# Altium footprint library airu-board.PCBLIB: 118 footprints (part 5 of 8)
Each footprint in its own frame and in the unit in brackets; x right, y up, seen from the top. Pads: shape width x height; smd on the part's side, far side on the other; paste and mask are expansions set on the pad; w line width, h text height; cw(c..) or ccw(c..) is an arc to the next point about the centre after c.
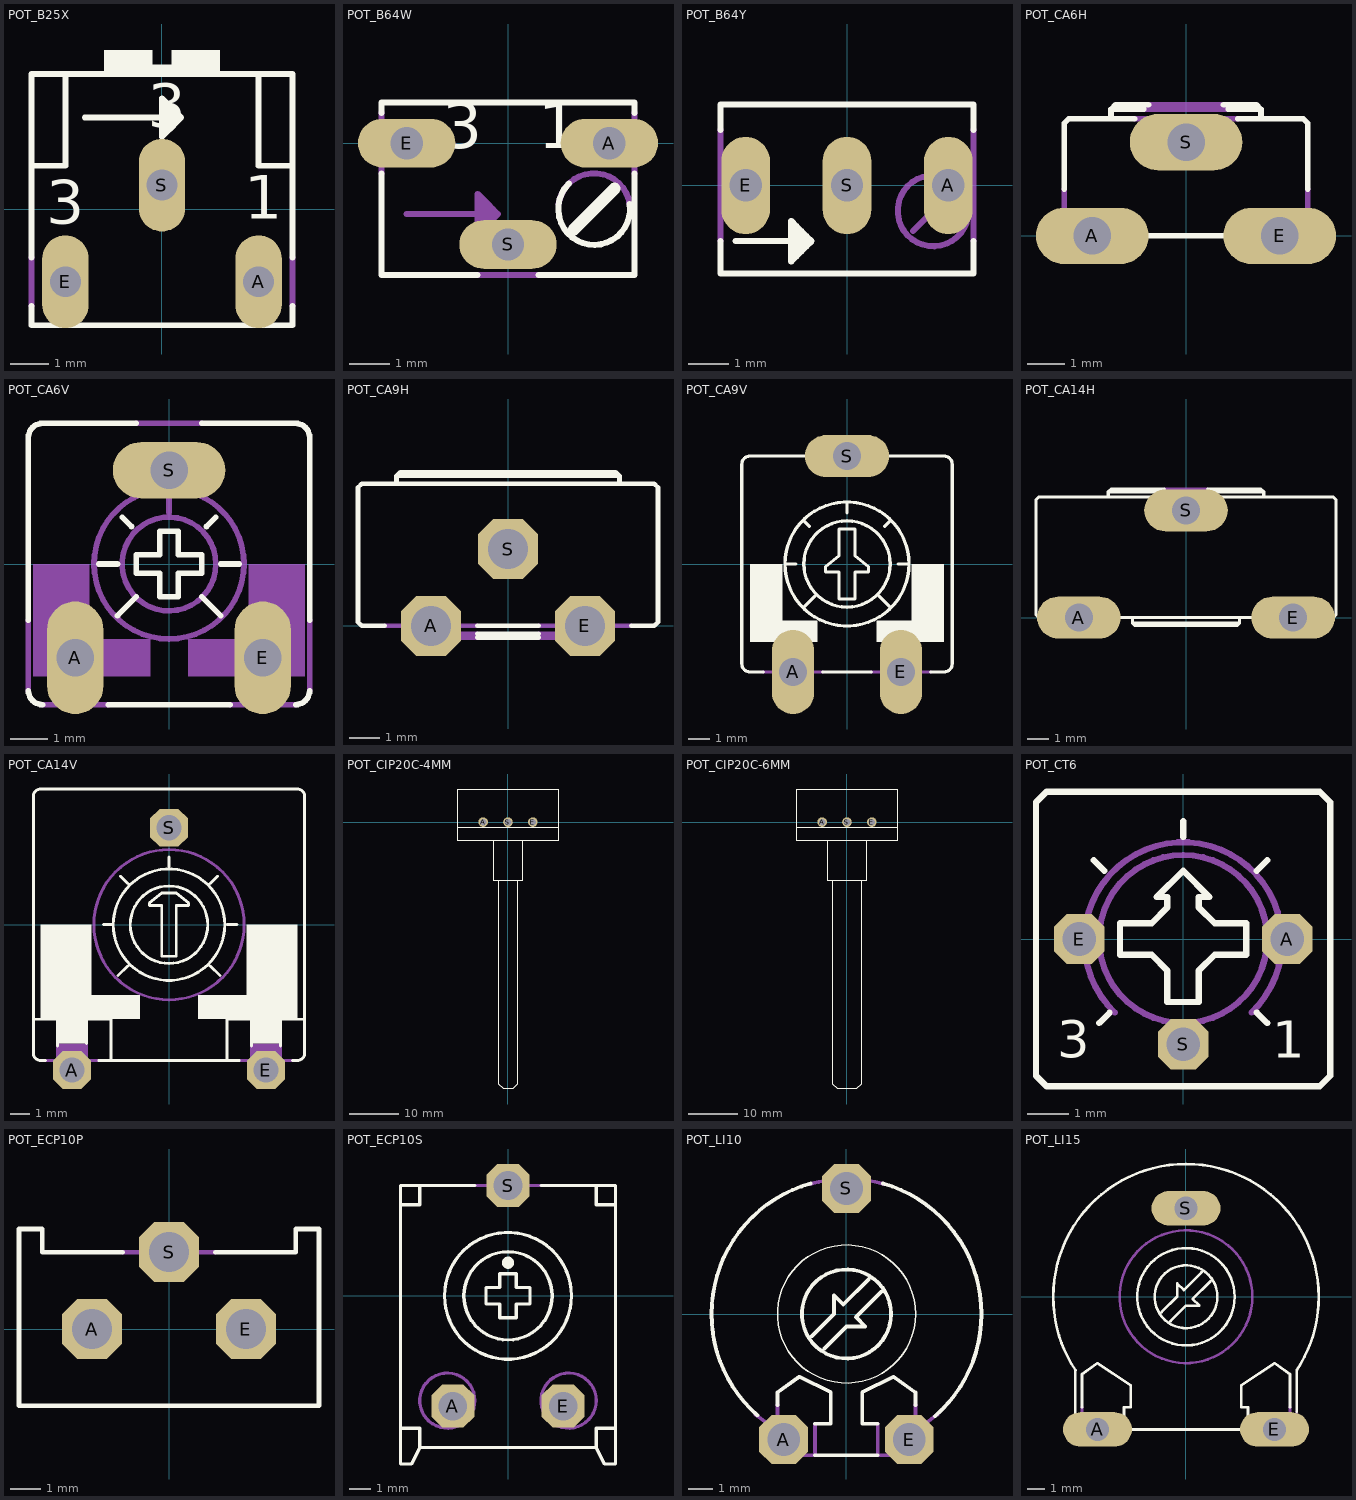
[diagram p4: the footprints below, top view; thin cyan lines are the x and y axes]

## POT_B25X [mil]
pads (3):
  oval 48x96 hole 32: A(100,-75) E(-100,-75) S(0,25)
Top Overlay:
  rectangle: -60,140 -10,165
  rectangle: 10,140 60,165
  rectangle: -10,140 10,150
  lines w6: -135,-100 -135,-120 135,-120 135,-100 ; -135,-50 -135,45 ; -80,95 5,95 ; 135,-50 135,45 ; -135,45 -100,45 -100,140 ; -135,45 -135,140 -100,140 ; -100,140 100,140 ; 5,80 10,85 ; 5,80 5,95 ; 5,80 0,75 0,115 5,110 ; 5,95 20,95 ; 5,95 5,110 ; 5,110 10,105 ; 10,85 10,105 ; 10,85 15,90 ; 10,105 15,100 ; 15,90 20,95 ; 15,90 15,100 ; 15,100 20,95 ; 100,140 135,140 135,45 ; 100,140 100,45 135,45
  text "3" at -120,-30 h77.5
  text "1" at 85,-25 h77.5
  text "3" at -15,70 h77.5
Mechanical 16:
  lines w6: -135,-100 -135,-50 ; 135,-100 135,-50

## POT_B64W [mil]
pads (3):
  oval 96x48 hole 32: A(100,0) E(-100,0) S(0,-100)
Top Overlay:
  lines w6: -125,-30 -125,-130 -30,-130 ; -125,30 -125,40 125,40 125,30 ; 30,-130 125,-130 125,-30 ; 60,-40 ccw(c85,-65) 120,-60
  lines w12: 65,-85 105,-45
  text "3" at -65,-20 h77.5
  text "1" at 30,-20 h77.5
Mechanical 16:
  lines w6: -125,-30 -125,30 ; -100,-70 -25,-70 ; -30,-130 30,-130 ; 50,-60 cw(c85,-65) 120,-60 ; 125,-30 125,30 ; -25,-85 -20,-80 ; -25,-85 -25,-70 ; -25,-85 -30,-90 -30,-50 -25,-55 ; -25,-70 -10,-70 ; -25,-70 -25,-55 ; -25,-55 -20,-60 ; -20,-80 -20,-60 ; -20,-80 -15,-75 ; -20,-60 -15,-65 ; -15,-75 -10,-70 ; -15,-75 -15,-65 ; -15,-65 -10,-70
  text "3" at -5,-95 h77.5

## POT_B64Y [mil]
pads (3):
  oval 48x96 hole 32: A(100,0) E(-100,0) S(0,0)
Top Overlay:
  lines w6: -125,-55 -125,-87 125,-87 125,-55 ; -125,55 -125,80 125,80 125,55 ; -110,-55 -50,-55 ; -50,-70 -45,-65 ; -50,-70 -50,-55 ; -50,-70 -55,-75 -55,-35 -50,-40 ; -50,-55 -35,-55 ; -50,-55 -50,-40 ; -50,-40 -45,-45 ; -45,-65 -45,-45 ; -45,-65 -40,-60 ; -45,-45 -40,-50 ; -40,-60 -35,-55 ; -40,-60 -40,-50 ; -40,-50 -35,-55
Mechanical 16:
  circle w6: c85,-25 r35
  lines w6: -125,-55 -125,55 ; 65,-45 105,-5 ; 125,-55 125,55
  text "1" at 80,20 h77.5
  text "3" at -80,20 h77.5

## POT_CA6H [mil]
pads (3):
  oval 120x60 hole 40: A(-100,0) E(100,0) S(0,100)
Top Overlay:
  lines w6: -130,50 -130,120 -125,125 -80,125 ; -55,125 -80,125 ; -45,0 45,0 ; -45,135 -80,135 ; -40,140 -75,140 -80,135 ; 40,140 75,140 80,135 ; 45,135 80,135 ; 55,125 80,125 ; 130,50 130,120 125,125 80,125 ; -80,125 -80,135 ; 80,125 80,135
Mechanical 16:
  lines w6: -130,50 -130,5 -125,0 -45,0 ; -55,125 55,125 ; -45,135 45,135 ; -40,140 40,140 ; 45,0 125,0 130,5 130,50

## POT_CA6V [mil]
pads (3):
  oval 60x120 hole 40: A(-100,-100) E(100,-100)
  oval 120x60 hole 40: S(0,100)
Top Overlay:
  lines w6: -150,-135 ccw(c-135,-135) -135,-150 ; -150,-60 -150,135 cw(c-135,135) -135,150 -35,150 ; -75,0 -55,0 ; -65,-150 65,-150 ; -55,-55 -35,-35 ; -50,50 -40,40 ; 35,-35 55,-55 ; 35,150 135,150 cw(c135,135) 150,135 150,-60 ; 40,40 50,50 ; 55,0 75,0 ; 135,-150 ccw(c135,-135) 150,-135 ; -35,-10 -10,-10 -10,-35 10,-35 10,-10 35,-10 35,10 10,10 10,35 -10,35 -10,10 -35,10 -35,-10
Mechanical 16:
  circle w6: c0,0 r80
  circle w6: c0,0 r50
  rectangle: 20,-120 145,-80
  rectangle: 85,-105 145,0
  rectangle: -145,-105 -85,0
  rectangle: -145,-120 -20,-80
  rectangle: 75,-150 125,-120
  rectangle: -125,-150 -75,-120
  lines w6: -150,-135 -150,-60 ; -135,-150 -65,-150 ; -35,150 35,150 ; 0,55 0,75 ; 65,-150 135,-150 ; 150,-135 150,-60

## POT_CA9H [mil]
pads (3):
  oct 78x78 hole 52: A(-100,0) E(100,0) S(0,100)
Top Overlay:
  lines w6: -160,0 -190,0 -195,5 -195,180 -190,185 -145,185 ; -40,-15 40,-15 ; -40,-10 40,-10 ; -40,0 40,0 ; 160,0 190,0 195,5 195,180 190,185 145,185 ; -145,185 -145,195 ; -145,185 145,185 ; -145,195 -140,200 140,200 145,195 ; -145,195 145,195 ; 145,185 145,195
Mechanical 16:
  lines w6: -160,0 -100,0 ; -40,-15 -95,-15 -100,-10 ; -40,-10 -100,-10 ; -40,0 -100,0 ; 40,-15 95,-15 100,-10 ; 40,-10 100,-10 ; 40,0 100,0 ; 160,0 100,0 ; -100,-10 -100,0 ; 100,-10 100,0

## POT_CA9V [mil]
pads (3):
  oval 78x156 hole 52: A(-100,-200) E(100,-200)
  oval 156x78 hole 52: S(0,200)
Top Overlay:
  circle w6: c0,0 r80
  circle w6: c0,0 r115
  rectangle: 55,-145 180,-105
  rectangle: 120,-105 180,0
  rectangle: -180,-105 -120,0
  rectangle: -180,-145 -55,-105
  lines w6: -155,-200 -180,-200 cw(c-180,-185) -195,-185 -195,185 cw(c-180,185) -180,200 -60,200 ; -115,0 -95,0 ; -80,-80 -60,-60 ; -80,80 -70,70 ; -45,-200 45,-200 ; 0,95 0,115 ; 60,-60 80,-80 ; 60,200 180,200 cw(c180,185) 195,185 195,-185 cw(c180,-185) 180,-200 155,-200 ; 70,70 80,80 ; 95,0 115,0 ; -40,-15 -15,-15 -15,-65 15,-65 15,-15 40,-15 40,-5 15,15 15,65 -15,65 -15,15 -40,-5 -40,-15
Mechanical 16:
  rectangle: -20,200 20,215
  rectangle: 80,-215 120,-145
  rectangle: -120,-215 -80,-145
  lines w6: -155,-200 -45,-200 ; -60,200 60,200 ; 45,-200 155,-200

## POT_CA14H [mil]
pads (3):
  oval 156x78 hole 52: A(-200,0) E(200,0) S(0,200)
Top Overlay:
  lines w6: -255,0 -275,0 -280,5 -280,220 -275,225 -145,225 ; -145,0 -100,0 ; -55,225 -145,225 ; -45,235 -145,235 ; -40,240 -140,240 -145,235 ; 40,240 140,240 145,235 ; 45,235 145,235 ; 55,225 145,225 ; 145,0 100,0 ; 255,0 275,0 280,5 280,220 275,225 145,225 ; -145,225 -145,235 ; -100,-10 -95,-15 95,-15 100,-10 ; -100,-10 -100,0 ; -100,-10 100,-10 ; -100,0 100,0 ; 100,-10 100,0 ; 145,225 145,235
Mechanical 16:
  lines w6: -255,0 -145,0 ; -55,225 55,225 ; -45,235 45,235 ; -40,240 40,240 ; 145,0 255,0

## POT_CA14V [mil]
pads (3):
  oct 78x78 hole 52: A(-200,-300) E(200,-300) S(0,200)
Top Overlay:
  circle w6: c0,0 r80
  circle w6: c0,0 r115
  rectangle: 170,-245 230,-195
  rectangle: 60,-195 265,-145
  rectangle: 160,-145 265,0
  rectangle: -230,-245 -170,-195
  rectangle: -265,-195 -60,-145
  rectangle: -265,-145 -160,0
  lines w6: -255,-280 -265,-280 cw(c-265,-265) -280,-265 -280,-195 ; -230,-250 -230,-195 -280,-195 ; -170,-245 -170,-195 -120,-195 -120,-280 ; -145,-280 -120,-280 ; -135,0 -115,0 ; -105,-105 -85,-85 ; -100,100 -85,85 ; 0,120 0,140 ; 85,-85 105,-105 ; 85,85 100,100 ; 120,0 140,0 ; 145,-280 120,-280 ; 170,-250 170,-195 120,-195 120,-280 ; 230,-250 230,-195 280,-195 ; 255,-280 265,-280 ccw(c265,-265) 280,-265 280,-195 ; -280,-195 -280,265 cw(c-265,265) -265,280 265,280 cw(c265,265) 280,265 280,-195 ; -120,-280 120,-280 ; -40,40 -15,40 -15,-65 15,-65 15,40 40,40 40,45 15,65 -15,65 -40,45 -40,40
Mechanical 16:
  circle w6: c0,0 r155
  rectangle: 170,-280 230,-245
  rectangle: -230,-280 -170,-245
  rectangle: 170,-310 230,-280
  rectangle: -230,-310 -170,-280
  lines w6: -255,-280 -145,-280 ; -230,-275 -230,-245 ; -170,-275 -170,-245 ; 145,-280 170,-280 ; 170,-250 170,-280 ; 230,-250 230,-280 ; 255,-280 230,-280 ; 170,-280 230,-280

## POT_CIP20C-4MM [mil]
pads (3):
  round 76 hole 52: A(-196.85,0) E(197,0) S(0,0)
Top Overlay:
  lines w8: -114.17,-152.56 -114.17,-464.57 115,-464.57 115,-153.54 ; -74.8,-467.52 -74.8,-2078.74 -35.43,-2118.11 36,-2118.11 75,-2078.74 75,-468.5 ; -397.64,-44.29 -397.64,-149.61 398,-149.61 398,-44.29 ; -397.64,-44.29 -397.64,263 398,263 398,-44.29 ; -397.64,-44.29 398,-44.29

## POT_CIP20C-6MM [mil]
pads (3):
  round 76 hole 52: A(-196.85,0) E(197,0) S(0,0)
Top Overlay:
  lines w8: -153.54,-152.56 -153.54,-464.57 154,-464.57 154,-153.54 ; -114.17,-467.52 -114.17,-2078.74 -74.8,-2118.11 75,-2118.11 115,-2078.74 115,-466.54 ; -397.64,-44.29 -397.64,-149.61 398,-149.61 398,-44.29 ; -397.64,-44.29 -397.64,263 398,263 398,-44.29 ; -397.64,-44.29 398,-44.29

## POT_CT6 [mil]
pads (3):
  oct 48x48 hole 32: A(99,0) E(-99,0) S(0,-100)
Top Overlay:
  lines w6: -85,75 -75,65 ; -80,-80 -70,-70 ; 0,97 0,112 ; 70,-70 80,-80 ; 70,65 80,75 ; -140,-130 -130,-140 130,-140 140,-130 140,130 130,140 -130,140 -140,130 -140,-130 ; -60,-15 -60,15 -30,15 -15,30 -15,40 -25,40 0,65 25,40 15,40 15,30 30,15 60,15 60,-15 30,-15 15,-30 15,-60 -15,-60 -15,-30 -30,-15 -60,-15
  text "3" at -120,-125 h60.45
  text "1" at 85,-125 h60.45
Mechanical 16:
  circle w6: c0,0 r80
  lines w6: -114,0 -99,0 ; -65,-70 cw(c0,-2) 65,-70 ; 99,0 114,0

## POT_ECP10P [mil]
pads (3):
  oct 78x78 hole 52: A(-100,0) E(100,0) S(0,100)
Top Overlay:
  lines w6: -60,100 -165,100 -165,130 -195,130 -195,-100 195,-100 195,130 165,130 165,100 60,100
Mechanical 16:
  rectangle: -20,100 20,110
  lines w6: -60,100 60,100

## POT_ECP10S [mil]
pads (3):
  oct 78x78 hole 52: A(-100,-200) E(100,-200) S(0,200)
Top Overlay:
  circle w6: c0,0 r80
  circle w12: c0,60 r5
  circle w6: c0,0 r115
  lines w6: -60,200 -160,200 ; 60,200 160,200 ; -195,-240 -195,165 ; -195,-240 -160,-240 -160,-275 ; -195,-240 -195,-305 -175,-305 -160,-275 ; -195,165 -195,200 -160,200 ; -195,165 -160,165 -160,200 ; -160,-275 160,-275 ; 160,-275 160,-240 195,-240 ; 160,-275 175,-305 195,-305 195,-240 ; 160,200 195,200 195,165 ; 160,200 160,165 195,165 ; 195,-240 195,165 ; -40,-15 -15,-15 -15,-40 15,-40 15,-15 40,-15 40,15 15,15 15,40 -15,40 -15,15 -40,15 -40,-15
Mechanical 16:
  circle w6: c-110,-190 r50
  circle w6: c110,-190 r50
  rectangle: -20,200 20,215
  lines w6: -60,200 60,200

## POT_LI10 [mil]
pads (3):
  oct 78x78 hole 52: A(-100,-200) E(100,-200) S(0,200)
Top Overlay:
  circle w6: c0,0 r71
  circle w2: c0,0 r110
  lines w6: -141.93,-161.5 cw(c0,0) -215,0 cw(c0.46,0.35) -57.01,208 ; -110,-145 -110,-125 -75,-100 -25,-125 -25,-175 -50,-175 ; -55,-35 -20,0 -20,30 -5,15 35,55 ; -50,-225 50,-225 ; -35,-55 0,-20 30,-20 15,-5 55,35 ; 50,-175 25,-175 25,-125 75,-100 110,-125 110,-145 ; 58,208 cw(c-0.33,0.72) 215,0 cw(c0.31,-0.67) 141,-162.84
Mechanical 16:
  lines w6: -145,-160 -125,-175 -125,-225 -110,-225 ; -110,-145 -110,-225 ; -58.36,207 cw(c-0.26,0.04) 0,215 cw(c1.8,-0.52) 60,207 ; -50,-175 -50,-225 -110,-225 ; 50,-175 50,-225 110,-225 ; 110,-145 110,-225 ; 145,-160 125,-175 125,-225 110,-225

## POT_LI15 [mil]
pads (3):
  oval 156x78 hole 52: A(-200,-300) E(200,-300) S(0,200)
Top Overlay:
  circle w6: c0,0 r71
  circle w6: c0,0 r110
  lines w6: -250,-265 -250,-165 ; -249.61,-166.41 cw(c0,0) -300,0 cw(c0,0) 300,0 cw(c0.19,-0.64) 250,-166.41 ; -235,-250 -235,-175 -200,-150 -125,-200 -125,-250 -140,-250 -140,-300 140,-300 140,-250 125,-250 125,-200 200,-150 235,-175 235,-250 ; -55,-35 -20,0 -20,30 -5,15 35,55 ; -35,-55 0,-20 30,-20 15,-5 55,35 ; 250,-260 250,-165
Mechanical 16:
  circle w6: c0,0 r150
  lines w6: -250,-265 -250,-300 -235,-300 ; -235,-250 -235,-300 ; -140,-300 -235,-300 ; 140,-300 235,-300 ; 235,-250 235,-300 ; 250,-260 250,-300 235,-300